# Altium schematic symbol library M50-3500542.SchLib: 2 symbols
Pins are listed as number, name and electrical type; pins without a type are passive.

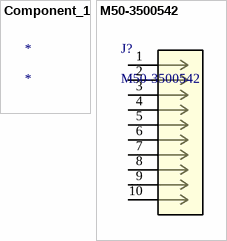
[diagram p0: symbols Component_1 to M50-3500542]

## Component_1
designator *

## M50-3500542
designator J?
No Description Available; Mfr_Name: Harwin; Copyright: Copyright (C) 2022 Ultra Librarian. All rights reserved.; Manufacturer_Part_Number: M50-3500542; RefDes: RefDes; Type: DEV
footprint CONN10_500542_HRW
pins: 1, 2, 3, 4, 5, 6, 7, 8, 9, 10